# EAGLE library part 75869-132 (library con-fci)
CONN HEADER DUAL VERT PCB
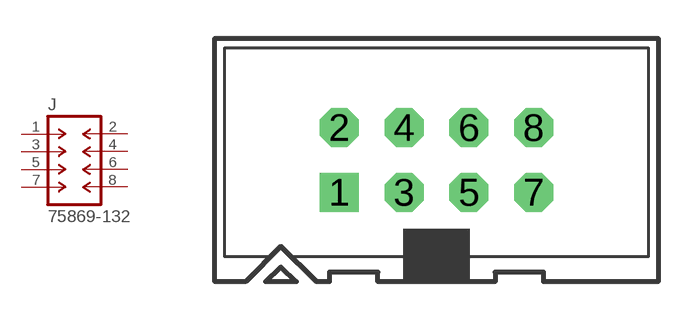
[diagram p0: symbol with the pads of M-2X04_40MIL; footprint M-2X04_40MIL]

Designator prefix J

## 75869-13232LF (DIGIKEY: 609-3530-ND; P1I: <)  [M-2X04_40MIL]
1  1  pas
2  2  pas
3  3  pas
4  4  pas
5  5  pas
6  6  pas
7  7  pas
8  8  pas

## Footprint M-2X04_40MIL (pad centres in mm)
0.100" Pitch, Male, 40mil drill
drill 1.016 square: 1 -3.81,-1.27
drill 1.016 octagon: 2 -3.81,1.27; 3 -1.27,-1.27; 4 -1.27,1.27; 5 1.27,-1.27; 6 1.27,1.27; 7 3.81,-1.27; 8 3.81,1.27